# Altium footprint library BARR_0.325IN_6X1_0.PcbLib: 1 footprints
Each footprint in its own frame and in the unit in brackets; x right, y up, seen from the top. Pads: shape width x height; smd on the part's side, far side on the other; paste and mask are expansions set on the pad; w line width, h text height; cw(c..) or ccw(c..) is an arc to the next point about the centre after c.
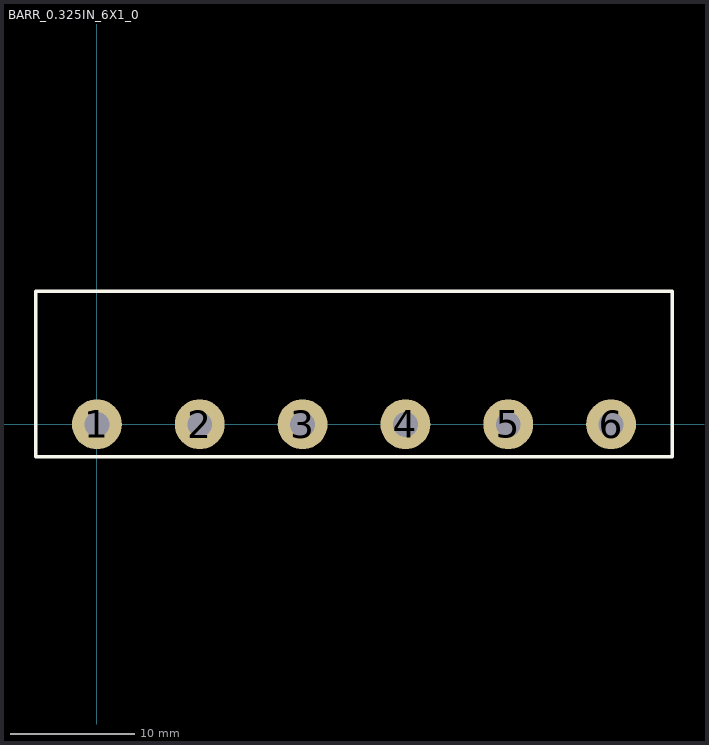
[diagram p0: the footprint, top view; thin cyan lines are the x and y axes]

## BARR_0.325IN_6X1_0 [mm] "Barrier Block, 0.325\" Pitch, 6 Pos, 1 Level, On Shore OSTYK42"
pads (6):
  round 4 hole 2: 1(0,0) 2(8.25,0) 3(16.5,0) 4(24.75,0) 5(33,0) 6(41.25,0)
Top Overlay:
  lines w0.254: -4.9,10.6 -4.9,-2.6 46.15,-2.6 46.15,10.6 ; -4.9,10.668 46.15,10.668